# EAGLE library part LM555 (library Diverse)
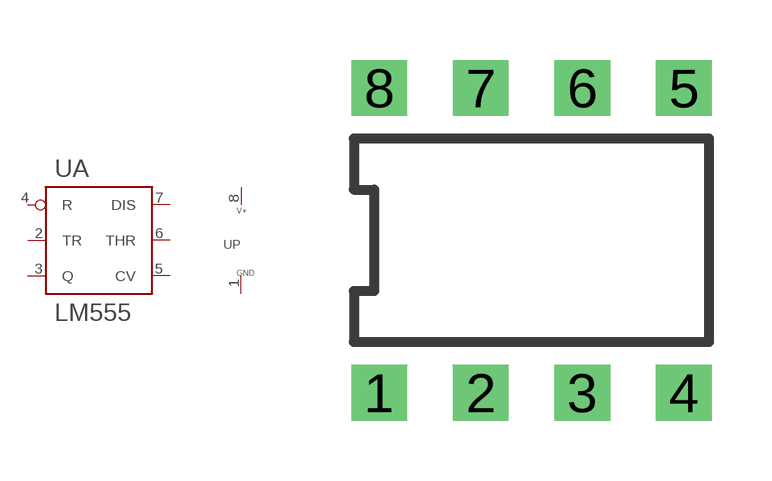
[diagram p8: symbol with the pads of DIL8; footprint DIL8]

Designator prefix U; gates A=555 P=PWR+GSS

## LM555  [DIL8]
1  P:GND  pwr
2  A:TR  in
3  A:Q  out
4  A:R  in
5  A:CV  in
6  A:THR  in
7  A:DIS  in
8  P:V+  pwr

## Footprint DIL8 (pad centres in mm)
drill 0.8 pad 1.397 square: 1 0,0; 2 2.54,0; 3 5.08,0; 4 7.62,0; 5 7.62,7.62; 6 5.08,7.62; 7 2.54,7.62; 8 0,7.62